# Altium footprint library pcb_peb_1.PcbLib: 34 footprints (part 2 of 3)
Each footprint in its own frame and in the unit in brackets; x right, y up, seen from the top. Pads: shape width x height; smd on the part's side, far side on the other; paste and mask are expansions set on the pad; w line width, h text height; cw(c..) or ccw(c..) is an arc to the next point about the centre after c.
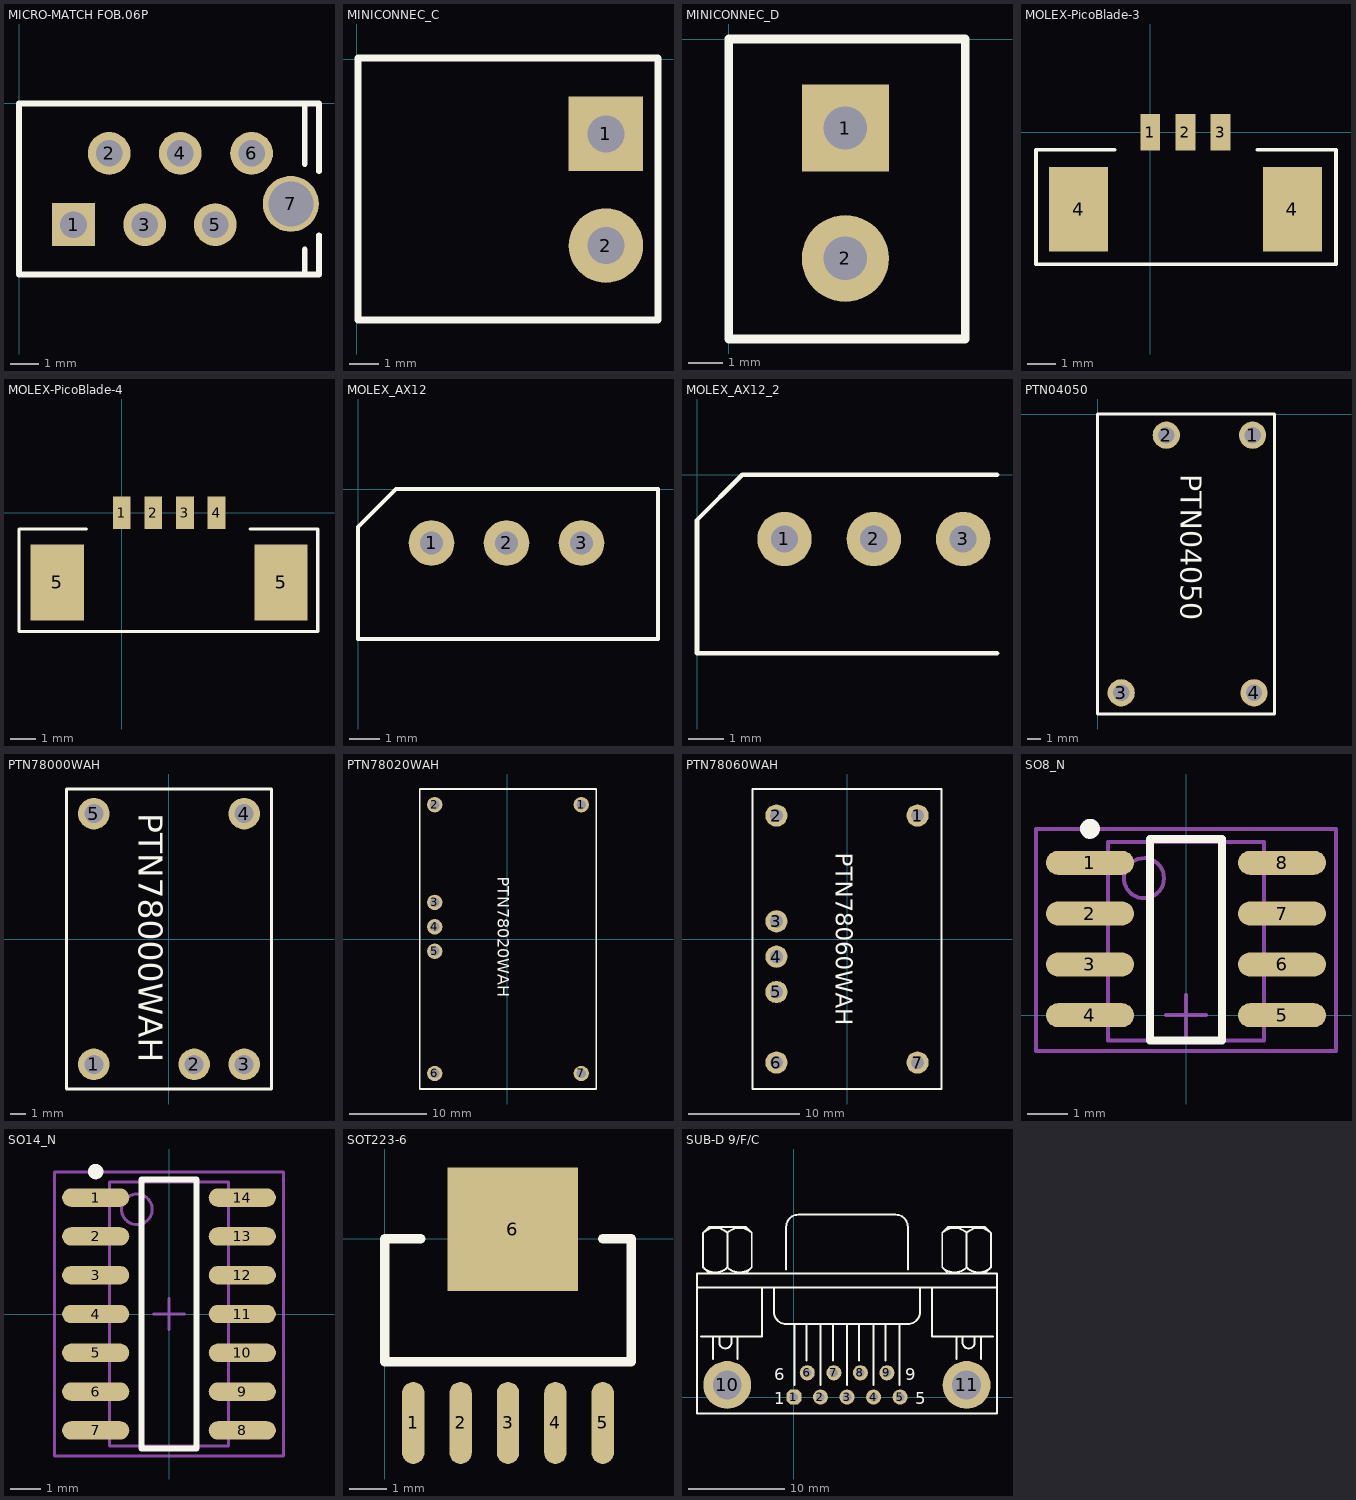
[diagram p1: the footprints below, top view; thin cyan lines are the x and y axes]

## MICRO-MATCH FOB.06P [mm]
pads (7):
  rect 1.524x1.524 hole 0.95: 1(1.945,-4.32)
  round 1.524 hole 0.95: 2(3.215,-1.78) 3(4.485,-4.32) 4(5.755,-1.78) 5(7,-4.32) 6(8.295,-1.78)
  round 2 hole 1.6: 7(9.695,-3.58)
Top Overlay:
  lines w0.203: 10.192,-6.096 10.192,-5.207 ; 10.192,-2.159 10.192,0 ; 10.7,-6.1 0,-6.1 0,0 10.7,0 10.7,-2.413 ; 10.7,-6.096 10.7,-4.699

## MINICONNEC_C [mil]
pads (2):
  rect 100x100 hole 50: 1(335,-100)
  round 100 hole 50: 2(335,-250)
Top Overlay:
  lines w10: 2,-350 405,-350 405,2 2,2 2,-350

## MINICONNEC_D [mm]
pads (2):
  rect 2.54x2.54 hole 1.27: 1(3.4,-2.6)
  round 2.54 hole 1.27: 2(3.4,-6.41)
Top Overlay:
  lines w0.254: 0,-8.763 6.9,-8.763 6.9,0 0,0 0,-8.763

## MOLEX-PicoBlade-3 [mm] "MOLEX 53398-0371"
pads (5):
  rect 0.7x1.3 smd: 1(0,0) 2(1.25,0) 3(2.5,0)
  rect 2.1x3 smd: 4(-2.55,-2.75) 4(5.05,-2.75)
Top Overlay:
  lines w0.127: -1.27,-0.635 -4.064,-0.635 -4.064,-4.699 6.604,-4.699 6.604,-0.635 3.81,-0.635

## MOLEX-PicoBlade-4 [mm] "MOLEX 53398-0471"
pads (6):
  rect 0.7x1.3 smd: 1(0,0) 2(1.25,0) 3(2.5,0) 4(3.75,0)
  rect 2.1x3 smd: 5(-2.55,-2.75) 5(6.3,-2.75)
Top Overlay:
  lines w0.127: -1.397,-0.635 -4.064,-0.635 -4.064,-4.699 7.747,-4.699 7.747,-0.635 5.08,-0.635

## MOLEX_AX12 [mil]
pads (3):
  round 60 hole 30: 1(96.46,-70.87) 2(194.88,-70.87) 3(293.31,-70.87)
Top Overlay:
  lines w5: 0,-196.85 393.7,-196.85 393.7,0 50,0 0,-50 0,-196.85

## MOLEX_AX12_2 [mil]
pads (3):
  round 60 hole 30: 1(96.46,-70.87) 2(194.88,-70.87) 3(293.31,-70.87)
Top Overlay:
  lines w5: 330.71,-196.85 0,-196.85 0,-50 50,0 330.71,0

## PCBComponent_1 [mm]

## PTN04050 [mm]
pads (4):
  round 2 hole 1.2: 1(11.394,-1.56) 2(5.054,-1.56) 3(1.74,-20.488) 4(11.501,-20.488)
Top Overlay:
  lines w0.2: 0,-22.048 13,-22.048 13,0 0,0 0,-22.048
  text "PTN04050" at 6.096,-4.445 h1.52

## PTN78000WAH [mm]
pads (5):
  round 2 hole 1.2: 1(-4.737,-7.915) 2(1.613,-7.915) 3(4.783,-7.915) 4(4.783,7.965) 5(-4.737,7.965)
Top Overlay:
  lines w0.2: -6.477,-9.475 -6.477,9.525 6.523,9.525 6.523,-9.475 -6.477,-9.475
  text "PTN78000WAH" at -1.905,8.001 h1.52

## PTN78020WAH [mm]
pads (7):
  round 2 hole 1.2: 1(9.652,17.518) 2(-9.398,17.518) 3(-9.398,4.818) 4(-9.398,1.638) 5(-9.398,-1.542) 6(-9.398,-17.422) 7(9.652,-17.422)
Top Overlay:
  lines w0.2: -11.373,-19.442 11.627,-19.442 11.627,19.558 -11.373,19.558 -11.373,-19.442
  text "PTN78020WAH" at -1.213,8.128 h1.52

## PTN78060WAH [mm]
pads (7):
  round 2 hole 1.2: 1(6.341,11.11) 2(-6.359,11.11) 3(-6.359,1.59) 4(-6.359,-1.59) 5(-6.359,-4.77) 6(-6.359,-11.12) 7(6.341,-11.12)
Top Overlay:
  lines w0.2: -8.509,-13.5 8.491,-13.5 8.491,13.5 -8.509,13.5 -8.509,-13.5
  text "PTN78060WAH" at -1.016,7.785 h1.52

## SO8_N [mm]
height 1.75
pads (8):
  oval 2.2x0.6 smd: 1(-2.4,3.81) 2(-2.4,2.54) 3(-2.4,1.27) 4(-2.4,0) 5(2.4,0) 6(2.4,1.27) 7(2.4,2.54) 8(2.4,3.81)
Top Overlay:
  circle w0.25: c-2.4,4.66 r0.125
  lines w0.2: -0.9,-0.635 -0.9,4.4 0.9,4.4 0.9,-0.635 -0.9,-0.635
Mechanical 13:
  circle w0.1: c-1.05,3.425 r0.5
  lines w0.1: -1.95,-0.635 -1.95,4.325 1.95,4.325 1.95,-0.635 -1.95,-0.635
Mechanical 15:
  lines w0.1: -0.5,0 0.5,0 ; 0,-0.5 0,0.5 ; -3.75,-0.889 -3.75,4.65 3.75,4.65 3.75,-0.889 -3.75,-0.889
3D body: height 1.75, standoff 0, extent -1.95,-0.635 1.95,4.325

## SO14_N [mm] "SOIC, 14-Leads, Body 8.7x3.9mm, Pitch 1.27mm, IPC Medium Density"
height 1.75
pads (14):
  oval 2.2x0.6 smd: 1(-2.4,3.81) 2(-2.4,2.54) 3(-2.4,1.27) 4(-2.4,0) 5(-2.4,-1.27) 6(-2.4,-2.54) 7(-2.4,-3.81) 8(2.4,-3.81) 9(2.4,-2.54) 10(2.4,-1.27) 11(2.4,0) 12(2.4,1.27) 13(2.4,2.54) 14(2.4,3.81)
Top Overlay:
  circle w0.25: c-2.4,4.66 r0.125
  lines w0.2: -0.9,-4.4 -0.9,4.4 0.9,4.4 0.9,-4.4 -0.9,-4.4
Mechanical 13:
  circle w0.1: c-1.05,3.425 r0.5
  lines w0.1: -1.95,-4.325 -1.95,4.325 1.95,4.325 1.95,-4.325 -1.95,-4.325
Mechanical 15:
  lines w0.1: -0.5,0 0.5,0 ; 0,-0.5 0,0.5 ; -3.75,-4.65 -3.75,4.65 3.75,4.65 3.75,-4.65 -3.75,-4.65
3D body: height 1.75, standoff 0, extent -1.95,-4.325 1.95,4.325

## SOT223-6 [mm]
height 1.75
pads (6):
  oval 0.6x2.2 smd: 1(0.762,-4.94) 2(2.032,-4.94) 3(3.302,-4.94) 4(4.572,-4.94) 5(5.842,-4.94)
  rect 3.5x3.3 smd: 6(3.429,0.254)
Top Overlay:
  lines w0.254: 0,0 0,-3.302 6.604,-3.302 6.604,0 5.842,0 ; 0,0.006 0.962,0.006

## SUB-D 9/F/C [mil]
pads (11):
  oct 62x62 hole 35: 1(0,0)
  round 62 hole 35: 2(109.17,0) 3(218.33,0) 4(327.5,0) 5(436.67,0) 6(55,100) 7(164.17,100) 8(273.33,100) 9(382.5,100)
  round 196.67 hole 118.33: 10(-274.17,50) 11(710,50)
Top Overlay:
  lines w8: -398.33,450 835,450 ; -381.67,250 -131.67,250 -131.67,450 ; -373.42,533.25 ccw(c-323.33,583.33) -273.25,533.25 ; -373.42,675.09 cw(c-323.33,625) -273.25,675.09 ; -348.33,508.33 -373.33,533.33 -373.33,675 -348.33,700 -198.33,700 -173.33,675 -173.33,533.33 -198.33,508.33 ; -331.67,157.48 -331.67,250 ; -306.67,250 -306.67,225 ccw(c-281.67,225) -256.67,225 -256.67,250 ; -273.42,533.25 ccw(c-223.33,583.33) -173.25,533.25 ; -273.42,675.09 cw(c-223.33,625) -173.25,675.09 ; -273.33,533.33 -273.33,675 ; -231.67,157.48 -231.67,250 ; -81.67,450 -81.67,350 ccw(c-31.67,350) -31.67,300 468.33,300 ccw(c468.33,350) 518.33,350 518.33,450 ; -31.67,525 -31.67,700 cw(c18.33,700) 18.33,750 418.33,750 cw(c418.33,700) 468.33,700 468.33,525 ; 1.67,50 1.67,300 ; 51.67,150 51.67,300 ; 110,50 110,300 ; 160,150 160,300 ; 218.33,50 218.33,300 ; 268.33,150 268.33,300 ; 326.67,50 326.67,300 ; 376.67,150 376.67,300 ; 435,50 435,300 ; 568.33,450 568.33,250 818.33,250 ; 609.91,533.25 ccw(c660,583.33) 710.09,533.25 ; 609.91,675.09 cw(c660,625) 710.09,675.09 ; 635,508.33 610,533.33 610,675 635,700 785,700 810,675 810,533.33 785,508.33 ; 668.33,157.48 668.33,250 ; 693.33,250 693.33,225 ccw(c718.33,225) 743.33,225 743.33,250 ; 709.91,533.25 ccw(c760,583.33) 810.09,533.25 ; 709.91,675.09 cw(c760,625) 810.09,675.09 ; 710,533.33 710,675 ; 768.33,157.48 768.33,250 ; -398.33,-66.67 -398.33,508.33 835,508.33 835,-66.67 -398.33,-66.67
  text "6" at -81.67,70 h50
  text "1" at -81.67,-30 h50
  text "5" at 498.33,-30 h50
  text "9" at 458.33,70 h50